# Altium footprint library 61203421621.PcbLib: 1 footprints
Each footprint in its own frame and in the unit in brackets; x right, y up, seen from the top. Pads: shape width x height; smd on the part's side, far side on the other; paste and mask are expansions set on the pad; w line width, h text height; cw(c..) or ccw(c..) is an arc to the next point about the centre after c.
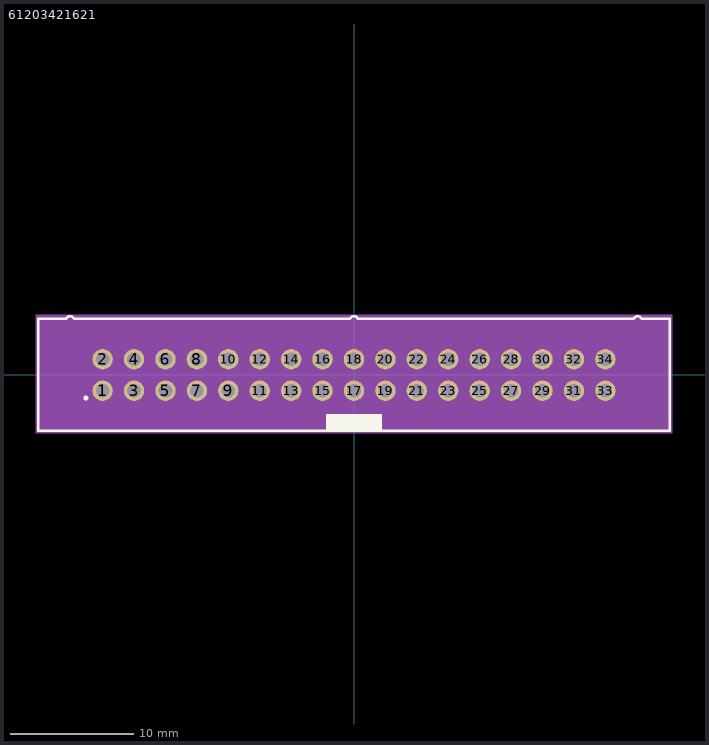
[diagram p0: the footprint, top view; thin cyan lines are the x and y axes]

## 61203421621 [mm]
pads (34):
  round 1.65 hole 1.1: 1(-20.32,-1.27) 2(-20.32,1.27) 3(-17.78,-1.27) 4(-17.78,1.27) 5(-15.24,-1.27) 6(-15.24,1.27) 7(-12.7,-1.27) 8(-12.7,1.27) 9(-10.16,-1.27) 10(-10.16,1.27) 11(-7.62,-1.27) 12(-7.62,1.27) 13(-5.08,-1.27) 14(-5.08,1.27) 15(-2.54,-1.27) 16(-2.54,1.27) 17(0,-1.27) 18(0,1.27) 19(2.54,-1.27) 20(2.54,1.27) 21(5.08,-1.27) 22(5.08,1.27) 23(7.62,-1.27) 24(7.62,1.27) 25(10.16,-1.27) 26(10.16,1.27) 27(12.7,-1.27) 28(12.7,1.27) 29(15.24,-1.27) 30(15.24,1.27) 31(17.78,-1.27) 32(17.78,1.27) 33(20.32,-1.27) 34(20.32,1.27)
Top Overlay:
  circle w0.2: c-21.68,-1.87 r0.1
  region: 2.25,-4.425 -2.25,-4.425 -2.25,-3.175 2.25,-3.175
  lines w0.2: -23.271,4.523 cw(c-22.95,4.4) -22.629,4.523 ; -23.27,4.525 -25.52,4.525 -25.52,-4.525 25.52,-4.525 25.52,4.525 23.25,4.525 ; -22.63,4.525 -0.33,4.525 ; -0.331,4.523 cw(c-0.01,4.4) 0.311,4.523 ; 0.31,4.525 22.61,4.525 ; 22.609,4.523 cw(c22.93,4.4) 23.251,4.523
Assembly Top:
  lines w0.1: -24.86,-3.77 -24.26,-3.16 ; -24.86,3.77 -24.25,3.17 ; -23.19,4.425 -25.42,4.425 -25.42,-4.425 -2.25,-4.425 ; -23.19,4.426 cw(c-22.94,4.43) -22.69,4.426 ; -22.69,4.425 22.69,4.425 ; -2.25,-4.395 -2.25,-3.795 ; -0.25,4.426 cw(c0,4.43) 0.25,4.426 ; 2.25,-4.425 25.42,-4.425 25.42,4.425 23.19,4.425 ; 2.25,-4.415 2.25,-3.815 ; 22.69,4.426 cw(c22.94,4.435) 23.19,4.426 ; 24.24,-3.17 24.85,-3.77 ; 24.25,3.15 24.85,3.76 ; -24.26,-3.16 -24.26,-3.175 -2.25,-3.175 -2.25,-3.775 -24.865,-3.775 -24.865,3.775 24.865,3.775 24.865,-3.775 2.25,-3.775 2.25,-3.175 24.26,-3.175 24.26,3.175 -24.26,3.175 -24.26,-3.16
Courtyard Top:
  region: 25.72,-4.725 -25.72,-4.725 -25.72,4.875 25.72,4.875
3D body "step_temp.STEP": height 9, standoff -3.1, extent -25.42,-4.445 25.42,4.73